# Altium schematic symbol library TAJC106K025RNJ.SchLib: 1 symbol
Pins are listed as number, name and electrical type; pins without a type are passive.

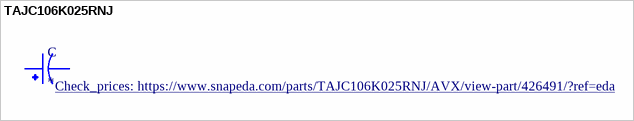
[diagram p0: symbol TAJC106K025RNJ]

## TAJC106K025RNJ
designator C
10ÂµF Molded Tantalum Capacitors 25V 2312 (6032 Metric) 1.8Ohm; MF: AVX; MP: TAJC106K025RNJ; Price: None; Value: *; Package: 2312 AVX; Mouser-Purchase-URL: https://snapeda.com/shop?store=Mouser&id=426491; SnapEDA_Link: https://www.snapeda.com/parts/TAJC106K025RNJ/AVX/view-part/426491/?ref=snap; Availability: Warning; Check_prices: https://www.snapeda.com/parts/TAJC106K025RNJ/AVX/view-part/426491/?ref=eda
footprint CAPPM6032X280N
pins: 1, 2